# EAGLE library part MAX543* (library NewSDR)
MAXIM 32-Tap, Nonvolatile, I2C, Linear, Digital Potentiometers
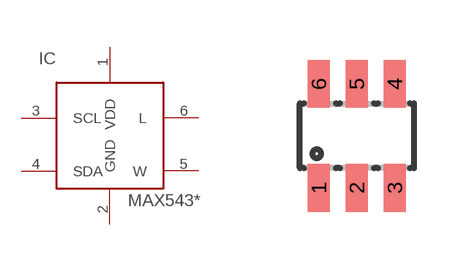
[diagram p20: symbol with the pads of SOT23-6L; footprint SOT23-6L]

Designator prefix IC

## MAX5434  [SOT23-6L]
1  VDD  pwr
2  GND  pwr
3  SCL
4  SDA
5  W  pas
6  L  pas

## Footprint SOT23-6L (pad centres in mm)
Small Outline Transistor
smd 0.55 x 1.2: 1 -0.95,-1.3; 2 0,-1.3; 3 0.95,-1.3; 4 0.95,1.3; 5 0,1.3; 6 -0.95,1.3